# Altium schematic symbol library kmilo17pet-NSC_Switcher.SchLib: 2226 symbols (part 31 of 59)
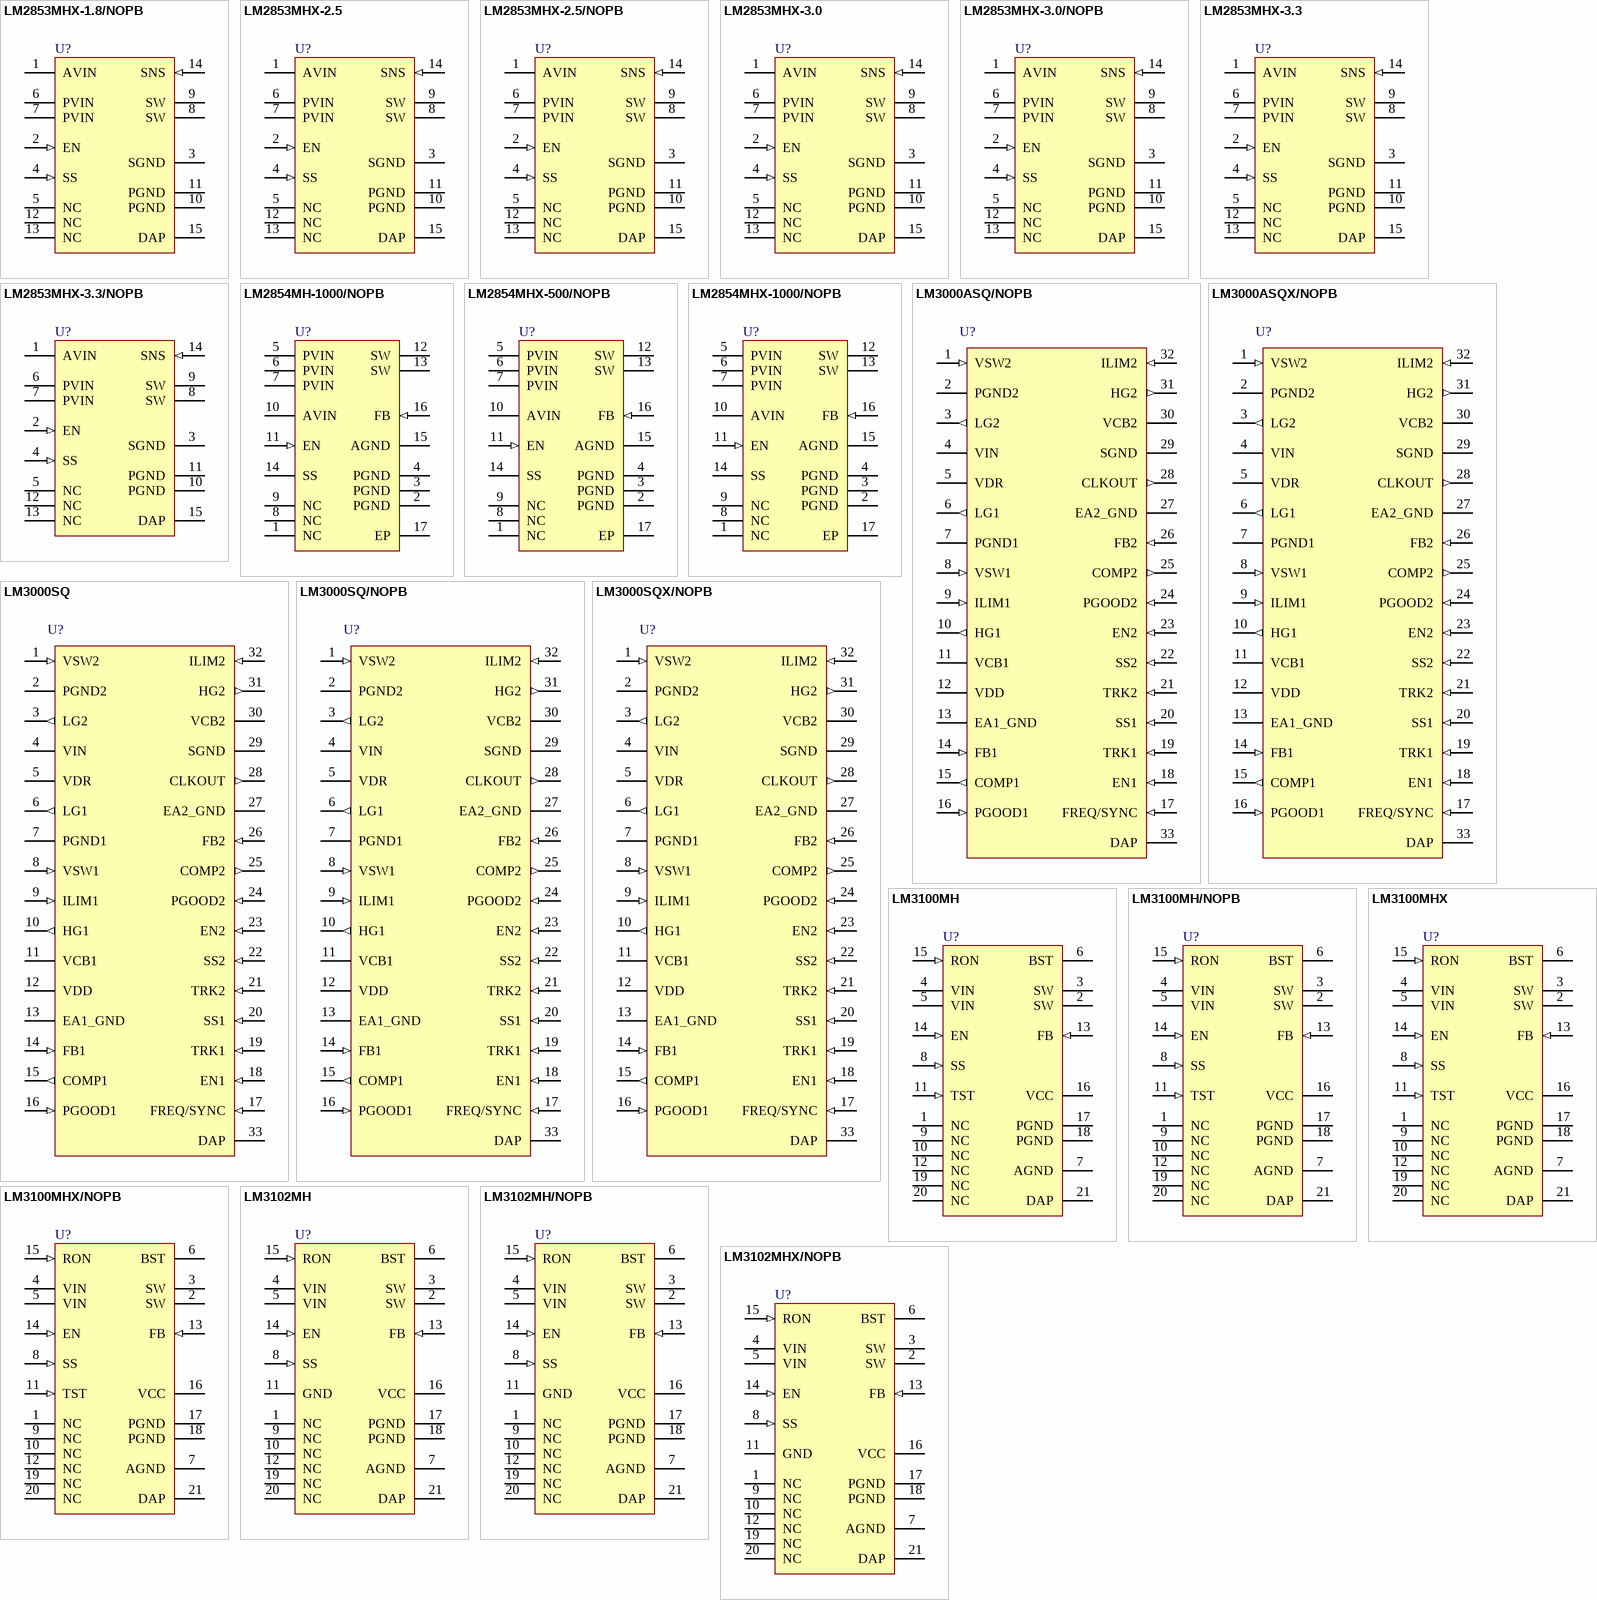
[diagram p99: symbols LM2853MHX-1.8/NOPB to LM3102MHX/NOPB]

## LM3102MHX/NOPB
designator U?
SIMPLE SWITCHER® Synchronous 1MHz 2.5A Step-Down Voltage Regulator, 20-pin TSSOP-EP, Pb-Free, 2500 Reel; PartNumber: LM3102MHX/NOPB; Manufacturer: National Semiconductor; PackageTopMarking: NSUZXYTT*LM3102*MH; PowerWise: Y; DatasheetVersion: May-2011; PackageVersion: revC, Jul-2006; PackageReference: MXA20A; PackageDescription: Molded TSSOP, Jedec, 6.5 x 4.4 x 0.9mm Body, 20 Lead, 0.65mm Pitch, Exposed Pad; RoHS: Y; PinCount: 20; CompType: Switcher; High-Reliability: Y; Code_JEDEC: MO-153-ACT; ComponentLink1Description: Manufacturer URL; ComponentLink1URL: http://www.national.com/; ComponentLink2Description: LM3102 Datasheet; ComponentLink2URL: http://www.national.com/ds/LM/LM3102.pdf; ComponentLink3Description: LM3102 Web Page; ComponentLink3URL: http://www.national.com/pf/LM/LM3102.html; ComponentLink4Description: MXA20A Package Page; ComponentLink4URL: http://www.national.com/packaging/folders/mxa20a.html
footprint MXA20A_N (TSOP, 20-Leads, Body 6.5x4.4mm, Pitch 0.65mm, Thermal Pad, IPC Medium Density)
footprint MXA20A_L (TSOP, 20-Leads, Body 6.5x4.4mm, Pitch 0.65mm, Thermal Pad, IPC High Density)
footprint MXA20A_M (TSOP, 20-Leads, Body 6.5x4.4mm, Pitch 0.65mm, Thermal Pad, IPC Low Density)
pins: 1 NC, 2 SW (power), 3 SW (power), 4 VIN (power), 5 VIN (power), 6 BST, 7 AGND (power), 8 SS (in), 9 NC, 10 NC, 11 GND (power), 12 NC, 13 FB (in), 14 EN (in), 15 RON (in), 16 VCC (power), 17 PGND (power), 18 PGND (power), 19 NC, 20 NC, 21 DAP (power)

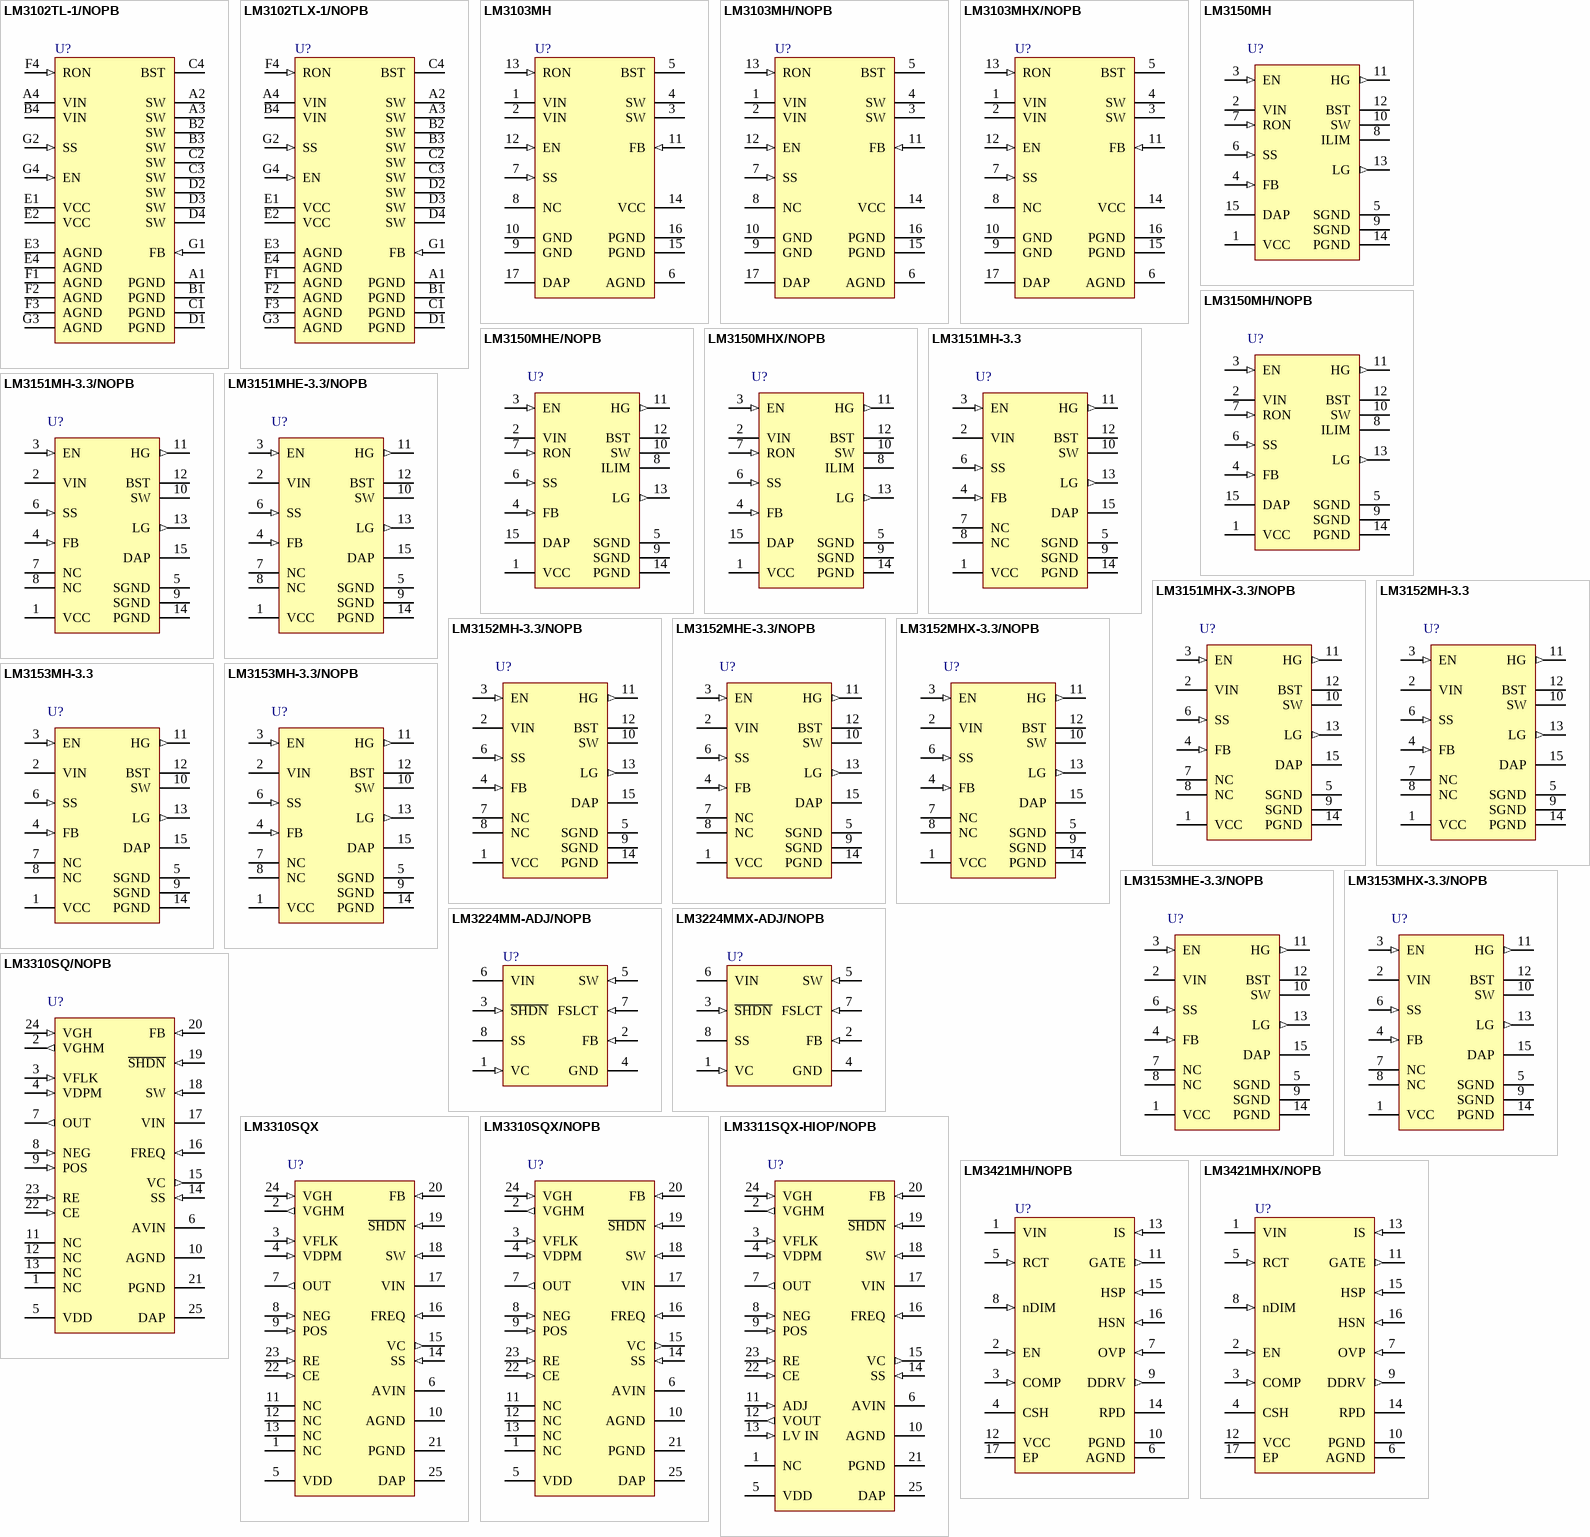
[diagram p33: symbols LM3102TL-1/NOPB to LM3421MHX/NOPB]

## LM3102TL-1/NOPB
designator U?
SIMPLE SWITCHER® Synchronous 1MHz 2.5A Step-Down Voltage  Regulator, 28-pin Micro SMD, 250 Reel; PartNumber: LM3102TL-1/NOPB; Manufacturer: National Semiconductor; PackageTopMarking: XYTT*I 3102; PowerWise: N; High-Reliability: Y; DatasheetVersion: May-2011; PackageVersion: revA, Apr-2010; PackageReference: TLC28VFA; PackageDescription: Thin Micro SMD, Off Centered Array, 28 Bump (Large), 0.5mm Pitch; RoHS: Y; PinCount: 28; CompType: Switcher; ComponentLink1Description: Manufacturer URL; ComponentLink1URL: http://www.national.com/; ComponentLink2Description: LM3102 Datasheet; ComponentLink2URL: http://www.national.com/ds/LM/LM3102.pdf; ComponentLink3Description: LM3102 Web Page; ComponentLink3URL: http://www.national.com/pf/LM/LM3102.html; ComponentLink4Description: TLC28VFA Package Page; ComponentLink4URL: http://www.national.com/packaging/folders/tlc28vfa.html
footprint TLC28VFA (Micro SMD, 28-Leads, Body 3.64x2.45mm, Pitch 0.5mm, NSC Recommended)
pins: A1 PGND (power), A2 SW (power), A3 SW (power), A4 VIN (power), B1 PGND (power), B2 SW (power), B3 SW (power), B4 VIN (power), C1 PGND (power), C2 SW (power), C3 SW (power), C4 BST, D1 PGND (power), D2 SW (power), D3 SW (power), D4 SW (power), E1 VCC (power), E2 VCC (power), E3 AGND (power), E4 AGND (power), F1 AGND (power), F2 AGND (power), F3 AGND (power), F4 RON (in), G1 FB (in), G2 SS (in), G3 AGND (power), G4 EN (in)

## LM3102TLX-1/NOPB
designator U?
SIMPLE SWITCHER® Synchronous 1MHz 2.5A Step-Down Voltage  Regulator, 28-pin Micro SMD, 3000 Reel; PartNumber: LM3102TLX-1/NOPB; Manufacturer: National Semiconductor; PackageTopMarking: XYTT*I 3102; PowerWise: N; High-Reliability: Y; DatasheetVersion: May-2011; PackageVersion: revA, Apr-2010; PackageReference: TLC28VFA; PackageDescription: Thin Micro SMD, Off Centered Array, 28 Bump (Large), 0.5mm Pitch; RoHS: Y; PinCount: 28; CompType: Switcher; ComponentLink1Description: Manufacturer URL; ComponentLink1URL: http://www.national.com/; ComponentLink2Description: LM3102 Datasheet; ComponentLink2URL: http://www.national.com/ds/LM/LM3102.pdf; ComponentLink3Description: LM3102 Web Page; ComponentLink3URL: http://www.national.com/pf/LM/LM3102.html; ComponentLink4Description: TLC28VFA Package Page; ComponentLink4URL: http://www.national.com/packaging/folders/tlc28vfa.html
footprint TLC28VFA (Micro SMD, 28-Leads, Body 3.64x2.45mm, Pitch 0.5mm, NSC Recommended)
pins: A1 PGND (power), A2 SW (power), A3 SW (power), A4 VIN (power), B1 PGND (power), B2 SW (power), B3 SW (power), B4 VIN (power), C1 PGND (power), C2 SW (power), C3 SW (power), C4 BST, D1 PGND (power), D2 SW (power), D3 SW (power), D4 SW (power), E1 VCC (power), E2 VCC (power), E3 AGND (power), E4 AGND (power), F1 AGND (power), F2 AGND (power), F3 AGND (power), F4 RON (in), G1 FB (in), G2 SS (in), G3 AGND (power), G4 EN (in)

## LM3103MH
designator U?
Synchronous 1MHz 0.75A Step-Down Voltage Regulator, 16-pin TSSOP-EP; PartNumber: LM3103MH; Manufacturer: National Semiconductor; PackageTopMarking: NSUZXYTT*LM3103*MH; PowerWise: Y; CompType: Switcher; DatasheetVersion: Nov-2009; PackageVersion: revA, Apr-2003; PackageReference: MXA16A; PackageDescription: Molded TSSOP, Jedec, Exposed Pad, 5.0 x 4.4 x 0.9mm Body,16 Lead, 0.65mm Pitch; RoHS: Y; PinCount: 16; High-Reliability: Y; Code_JEDEC: MO-153-ABT; ComponentLink1Description: Manufacturer URL; ComponentLink1URL: http://www.national.com/; ComponentLink2Description: LM3103 Datasheet; ComponentLink2URL: http://www.national.com/ds/LM/LM3103.pdf; ComponentLink3Description: LM3103 Web Page; ComponentLink3URL: http://www.national.com/pf/LM/LM3103.html; ComponentLink4Description: MXA16A Package Page; ComponentLink4URL: http://www.national.com/packaging/folders/mxa16a.html
footprint MXA16A_N (TSOP, 16-Leads, Body 5x4.4mm, Pitch 0.65mm, Thermal Pad, IPC Medium Density)
footprint MXA16A_L (TSOP, 16-Leads, Body 5x4.4mm, Pitch 0.65mm, Thermal Pad, IPC High Density)
footprint MXA16A_M (TSOP, 16-Leads, Body 5x4.4mm, Pitch 0.65mm, Thermal Pad, IPC Low Density)
pins: 1 VIN (power), 2 VIN (power), 3 SW (power), 4 SW (power), 5 BST, 6 AGND (power), 7 SS (in), 8 NC, 9 GND (power), 10 GND (power), 11 FB (in), 12 EN (in), 13 RON (in), 14 VCC (power), 15 PGND (power), 16 PGND (power), 17 DAP (power)

## LM3103MH/NOPB
designator U?
SIMPLE SWITCHER® Synchronous 1MHz 0.75A Step-Down Voltage Regulator, 16-pin TSSOP-EP, Pb-Free; PartNumber: LM3103MH/NOPB; Manufacturer: National Semiconductor; PackageTopMarking: NSUZXYTT*LM3103*MH; PowerWise: Y; DatasheetVersion: Nov-2009; PackageVersion: revA, Apr-2003; PackageReference: MXA16A; PackageDescription: Molded TSSOP, Jedec, Exposed Pad, 5.0 x 4.4 x 0.9mm Body,16 Lead, 0.65mm Pitch; RoHS: Y; PinCount: 16; CompType: Switcher; High-Reliability: Y; Code_JEDEC: MO-153-ABT; ComponentLink1Description: Manufacturer URL; ComponentLink1URL: http://www.national.com/; ComponentLink2Description: LM3103 Datasheet; ComponentLink2URL: http://www.national.com/ds/LM/LM3103.pdf; ComponentLink3Description: LM3103 Web Page; ComponentLink3URL: http://www.national.com/pf/LM/LM3103.html; ComponentLink4Description: MXA16A Package Page; ComponentLink4URL: http://www.national.com/packaging/folders/mxa16a.html
footprint MXA16A_N (TSOP, 16-Leads, Body 5x4.4mm, Pitch 0.65mm, Thermal Pad, IPC Medium Density)
footprint MXA16A_L (TSOP, 16-Leads, Body 5x4.4mm, Pitch 0.65mm, Thermal Pad, IPC High Density)
footprint MXA16A_M (TSOP, 16-Leads, Body 5x4.4mm, Pitch 0.65mm, Thermal Pad, IPC Low Density)
pins: 1 VIN (power), 2 VIN (power), 3 SW (power), 4 SW (power), 5 BST, 6 AGND (power), 7 SS (in), 8 NC, 9 GND (power), 10 GND (power), 11 FB (in), 12 EN (in), 13 RON (in), 14 VCC (power), 15 PGND (power), 16 PGND (power), 17 DAP (power)

## LM3103MHX/NOPB
designator U?
SIMPLE SWITCHER® Synchronous 1MHz 0.75A Step-Down Voltage Regulator, 16-pin TSSOP-EP, Pb-Free; PartNumber: LM3103MHX/NOPB; Manufacturer: National Semiconductor; PackageTopMarking: NSUZXYTT*LM3103*MH; PowerWise: Y; DatasheetVersion: Nov-2009; PackageVersion: revA, Apr-2003; PackageReference: MXA16A; PackageDescription: Molded TSSOP, Jedec, Exposed Pad, 5.0 x 4.4 x 0.9mm Body,16 Lead, 0.65mm Pitch; RoHS: Y; PinCount: 16; CompType: Switcher; High-Reliability: Y; Code_JEDEC: MO-153-ABT; ComponentLink1Description: Manufacturer URL; ComponentLink1URL: http://www.national.com/; ComponentLink2Description: LM3103 Datasheet; ComponentLink2URL: http://www.national.com/ds/LM/LM3103.pdf; ComponentLink3Description: LM3103 Web Page; ComponentLink3URL: http://www.national.com/pf/LM/LM3103.html; ComponentLink4Description: MXA16A Package Page; ComponentLink4URL: http://www.national.com/packaging/folders/mxa16a.html
footprint MXA16A_N (TSOP, 16-Leads, Body 5x4.4mm, Pitch 0.65mm, Thermal Pad, IPC Medium Density)
footprint MXA16A_L (TSOP, 16-Leads, Body 5x4.4mm, Pitch 0.65mm, Thermal Pad, IPC High Density)
footprint MXA16A_M (TSOP, 16-Leads, Body 5x4.4mm, Pitch 0.65mm, Thermal Pad, IPC Low Density)
pins: 1 VIN (power), 2 VIN (power), 3 SW (power), 4 SW (power), 5 BST, 6 AGND (power), 7 SS (in), 8 NC, 9 GND (power), 10 GND (power), 11 FB (in), 12 EN (in), 13 RON (in), 14 VCC (power), 15 PGND (power), 16 PGND (power), 17 DAP (power)

## LM3150MH
designator U?
SIMPLE SWITCHER® CONTROLLER, 42V Synchronous Step-Down, 14-pin TSSOP-EP; PartNumber: LM3150MH; Manufacturer: National Semiconductor; PackageTopMarking: NSUZXYTT*LM3150*MH; PowerWise: Y; DatasheetVersion: Oct-2008; PackageVersion: revA, Feb-2003; PackageReference: MXA14A; PackageDescription: Molded TSSOP, JEDEC, Exposed Pad, 5.0 x 4.4 x 0.9mm Body, 14 Lead, 0.65mm Pitch; RoHS: Y; PinCount: 14; CompType: Switcher; High-Reliability: Y; Code_JEDEC: MO-153-ABT-1; ComponentLink1Description: Manufacturer URL; ComponentLink1URL: http://www.national.com/; ComponentLink2Description: LM3150 Datasheet; ComponentLink2URL: http://www.national.com/ds/LM/LM3150.pdf; ComponentLink3Description: LM3150 Web Page; ComponentLink3URL: http://www.national.com/pf/LM/LM3150.html; ComponentLink4Description: MXA14A Package Page; ComponentLink4URL: http://www.national.com/packaging/folders/mxa14a.html
footprint MXA14A_N (TSOP, 14-Leads, Body 5x4.4mm, Pitch 0.65mm, Thermal Pad, IPC Medium Density)
footprint MXA14A_L (TSOP, 14-Leads, Body 5x4.4mm, Pitch 0.65mm, Thermal Pad, IPC High Density)
footprint MXA14A_M (TSOP, 14-Leads, Body 5x4.4mm, Pitch 0.65mm, Thermal Pad, IPC Low Density)
pins: 1 VCC (power), 2 VIN (power), 3 EN (in), 4 FB (in), 5 SGND (power), 6 SS (in), 7 RON (in), 8 ILIM, 9 SGND (power), 10 SW (power), 11 HG (out), 12 BST, 13 LG (out), 14 PGND (power), 15 DAP (power)

## LM3150MH/NOPB
designator U?
SIMPLE SWITCHER® CONTROLLER, 42V Synchronous Step-Down, 14-pin TSSOP-EP, Pb-Free; PartNumber: LM3150MH/NOPB; Manufacturer: National Semiconductor; PackageTopMarking: NSUZXYTT*LM3150*MH; PowerWise: Y; DatasheetVersion: Oct-2008; PackageVersion: revA, Feb-2003; PackageReference: MXA14A; PackageDescription: Molded TSSOP, JEDEC, Exposed Pad, 5.0 x 4.4 x 0.9mm Body, 14 Lead, 0.65mm Pitch; RoHS: Y; PinCount: 14; CompType: Switcher; High-Reliability: Y; Code_JEDEC: MO-153-ABT-1; ComponentLink1Description: Manufacturer URL; ComponentLink1URL: http://www.national.com/; ComponentLink2Description: LM3150 Datasheet; ComponentLink2URL: http://www.national.com/ds/LM/LM3150.pdf; ComponentLink3Description: LM3150 Web Page; ComponentLink3URL: http://www.national.com/pf/LM/LM3150.html; ComponentLink4Description: MXA14A Package Page; ComponentLink4URL: http://www.national.com/packaging/folders/mxa14a.html
footprint MXA14A_N (TSOP, 14-Leads, Body 5x4.4mm, Pitch 0.65mm, Thermal Pad, IPC Medium Density)
footprint MXA14A_L (TSOP, 14-Leads, Body 5x4.4mm, Pitch 0.65mm, Thermal Pad, IPC High Density)
footprint MXA14A_M (TSOP, 14-Leads, Body 5x4.4mm, Pitch 0.65mm, Thermal Pad, IPC Low Density)
pins: 1 VCC (power), 2 VIN (power), 3 EN (in), 4 FB (in), 5 SGND (power), 6 SS (in), 7 RON (in), 8 ILIM, 9 SGND (power), 10 SW (power), 11 HG (out), 12 BST, 13 LG (out), 14 PGND (power), 15 DAP (power)

## LM3150MHE/NOPB
designator U?
SIMPLE SWITCHER® CONTROLLER, 42V Synchronous Step-Down, 14-pin TSSOP-EP, Pb-Free; PartNumber: LM3150MHE/NOPB; Manufacturer: National Semiconductor; PackageTopMarking: NSUZXYTT*LM3150*MH; PowerWise: Y; DatasheetVersion: Oct-2008; PackageVersion: revA, Feb-2003; PackageReference: MXA14A; PackageDescription: Molded TSSOP, JEDEC, Exposed Pad, 5.0 x 4.4 x 0.9mm Body, 14 Lead, 0.65mm Pitch; RoHS: Y; PinCount: 14; CompType: Switcher; High-Reliability: Y; Code_JEDEC: MO-153-ABT-1; ComponentLink1Description: Manufacturer URL; ComponentLink1URL: http://www.national.com/; ComponentLink2Description: LM3150 Datasheet; ComponentLink2URL: http://www.national.com/ds/LM/LM3150.pdf; ComponentLink3Description: LM3150 Web Page; ComponentLink3URL: http://www.national.com/pf/LM/LM3150.html; ComponentLink4Description: MXA14A Package Page; ComponentLink4URL: http://www.national.com/packaging/folders/mxa14a.html
footprint MXA14A_N (TSOP, 14-Leads, Body 5x4.4mm, Pitch 0.65mm, Thermal Pad, IPC Medium Density)
footprint MXA14A_L (TSOP, 14-Leads, Body 5x4.4mm, Pitch 0.65mm, Thermal Pad, IPC High Density)
footprint MXA14A_M (TSOP, 14-Leads, Body 5x4.4mm, Pitch 0.65mm, Thermal Pad, IPC Low Density)
pins: 1 VCC (power), 2 VIN (power), 3 EN (in), 4 FB (in), 5 SGND (power), 6 SS (in), 7 RON (in), 8 ILIM, 9 SGND (power), 10 SW (power), 11 HG (out), 12 BST, 13 LG (out), 14 PGND (power), 15 DAP (power)

## LM3150MHX/NOPB
designator U?
SIMPLE SWITCHER® CONTROLLER, 42V Synchronous Step-Down, 14-pin TSSOP-EP, Pb-Free; PartNumber: LM3150MHX/NOPB; Manufacturer: National Semiconductor; PackageTopMarking: NSUZXYTT*LM3150*MH; PowerWise: Y; DatasheetVersion: Oct-2008; PackageVersion: revA, Feb-2003; PackageReference: MXA14A; PackageDescription: Molded TSSOP, JEDEC, Exposed Pad, 5.0 x 4.4 x 0.9mm Body, 14 Lead, 0.65mm Pitch; RoHS: Y; PinCount: 14; CompType: Switcher; High-Reliability: Y; Code_JEDEC: MO-153-ABT-1; ComponentLink1Description: Manufacturer URL; ComponentLink1URL: http://www.national.com/; ComponentLink2Description: LM3150 Datasheet; ComponentLink2URL: http://www.national.com/ds/LM/LM3150.pdf; ComponentLink3Description: LM3150 Web Page; ComponentLink3URL: http://www.national.com/pf/LM/LM3150.html; ComponentLink4Description: MXA14A Package Page; ComponentLink4URL: http://www.national.com/packaging/folders/mxa14a.html
footprint MXA14A_N (TSOP, 14-Leads, Body 5x4.4mm, Pitch 0.65mm, Thermal Pad, IPC Medium Density)
footprint MXA14A_L (TSOP, 14-Leads, Body 5x4.4mm, Pitch 0.65mm, Thermal Pad, IPC High Density)
footprint MXA14A_M (TSOP, 14-Leads, Body 5x4.4mm, Pitch 0.65mm, Thermal Pad, IPC Low Density)
pins: 1 VCC (power), 2 VIN (power), 3 EN (in), 4 FB (in), 5 SGND (power), 6 SS (in), 7 RON (in), 8 ILIM, 9 SGND (power), 10 SW (power), 11 HG (out), 12 BST, 13 LG (out), 14 PGND (power), 15 DAP (power)

## LM3151MH-3.3
designator U?
SIMPLE SWITCHER® CONTROLLER, 42V Synchronous Step-Down, 14-pin TSSOP-EP; PartNumber: LM3151MH-3.3; Manufacturer: National Semiconductor; PackageTopMarking: NSUZXYTT*LM3151*-3.3; PowerWise: Y; DatasheetVersion: Oct-2008; PackageVersion: revA, Feb-2003; PackageReference: MXA14A; PackageDescription: Molded TSSOP, JEDEC, Exposed Pad, 5.0 x 4.4 x 0.9mm Body, 14 Lead, 0.65mm Pitch; RoHS: Y; PinCount: 14; CompType: Switcher; High-Reliability: Y; Code_JEDEC: MO-153-ABT-1; ComponentLink1Description: Manufacturer URL; ComponentLink1URL: http://www.national.com/; ComponentLink2Description: LM3151 Datasheet; ComponentLink2URL: http://www.national.com/ds/LM/LM3151.pdf; ComponentLink3Description: LM3151 Web Page; ComponentLink3URL: http://www.national.com/pf/LM/LM3151.html; ComponentLink4Description: MXA14A Package Page; ComponentLink4URL: http://www.national.com/packaging/folders/mxa14a.html
footprint MXA14A_N (TSOP, 14-Leads, Body 5x4.4mm, Pitch 0.65mm, Thermal Pad, IPC Medium Density)
footprint MXA14A_L (TSOP, 14-Leads, Body 5x4.4mm, Pitch 0.65mm, Thermal Pad, IPC High Density)
footprint MXA14A_M (TSOP, 14-Leads, Body 5x4.4mm, Pitch 0.65mm, Thermal Pad, IPC Low Density)
pins: 1 VCC (power), 2 VIN (power), 3 EN (in), 4 FB (in), 5 SGND (power), 6 SS (in), 7 NC, 8 NC, 9 SGND (power), 10 SW (power), 11 HG (out), 12 BST, 13 LG (out), 14 PGND (power), 15 DAP (power)

## LM3151MH-3.3/NOPB
designator U?
SIMPLE SWITCHER® CONTROLLER, 42V Synchronous Step-Down, 14-pin TSSOP-EP, Pb-Free; PartNumber: LM3151MH-3.3/NOPB; Manufacturer: National Semiconductor; PackageTopMarking: NSUZXYTT*LM3151*-3.3; PowerWise: Y; DatasheetVersion: Oct-2008; PackageVersion: revA, Feb-2003; PackageReference: MXA14A; PackageDescription: Molded TSSOP, JEDEC, Exposed Pad, 5.0 x 4.4 x 0.9mm Body, 14 Lead, 0.65mm Pitch; RoHS: Y; PinCount: 14; CompType: Switcher; High-Reliability: Y; Code_JEDEC: MO-153-ABT-1; ComponentLink1Description: Manufacturer URL; ComponentLink1URL: http://www.national.com/; ComponentLink2Description: LM3151 Datasheet; ComponentLink2URL: http://www.national.com/ds/LM/LM3151.pdf; ComponentLink3Description: LM3151 Web Page; ComponentLink3URL: http://www.national.com/pf/LM/LM3151.html; ComponentLink4Description: MXA14A Package Page; ComponentLink4URL: http://www.national.com/packaging/folders/mxa14a.html
footprint MXA14A_N (TSOP, 14-Leads, Body 5x4.4mm, Pitch 0.65mm, Thermal Pad, IPC Medium Density)
footprint MXA14A_L (TSOP, 14-Leads, Body 5x4.4mm, Pitch 0.65mm, Thermal Pad, IPC High Density)
footprint MXA14A_M (TSOP, 14-Leads, Body 5x4.4mm, Pitch 0.65mm, Thermal Pad, IPC Low Density)
pins: 1 VCC (power), 2 VIN (power), 3 EN (in), 4 FB (in), 5 SGND (power), 6 SS (in), 7 NC, 8 NC, 9 SGND (power), 10 SW (power), 11 HG (out), 12 BST, 13 LG (out), 14 PGND (power), 15 DAP (power)

## LM3151MHE-3.3/NOPB
designator U?
SIMPLE SWITCHER® CONTROLLER, 42V Synchronous Step-Down, 14-pin TSSOP-EP, Pb-Free; PartNumber: LM3151MHE-3.3/NOPB; Manufacturer: National Semiconductor; PackageTopMarking: NSUZXYTT*LM3151*-3.3; PowerWise: Y; DatasheetVersion: Oct-2008; PackageVersion: revA, Feb-2003; PackageReference: MXA14A; PackageDescription: Molded TSSOP, JEDEC, Exposed Pad, 5.0 x 4.4 x 0.9mm Body, 14 Lead, 0.65mm Pitch; RoHS: Y; PinCount: 14; CompType: Switcher; High-Reliability: Y; Code_JEDEC: MO-153-ABT-1; ComponentLink1Description: Manufacturer URL; ComponentLink1URL: http://www.national.com/; ComponentLink2Description: LM3151 Datasheet; ComponentLink2URL: http://www.national.com/ds/LM/LM3151.pdf; ComponentLink3Description: LM3151 Web Page; ComponentLink3URL: http://www.national.com/pf/LM/LM3151.html; ComponentLink4Description: MXA14A Package Page; ComponentLink4URL: http://www.national.com/packaging/folders/mxa14a.html
footprint MXA14A_N (TSOP, 14-Leads, Body 5x4.4mm, Pitch 0.65mm, Thermal Pad, IPC Medium Density)
footprint MXA14A_L (TSOP, 14-Leads, Body 5x4.4mm, Pitch 0.65mm, Thermal Pad, IPC High Density)
footprint MXA14A_M (TSOP, 14-Leads, Body 5x4.4mm, Pitch 0.65mm, Thermal Pad, IPC Low Density)
pins: 1 VCC (power), 2 VIN (power), 3 EN (in), 4 FB (in), 5 SGND (power), 6 SS (in), 7 NC, 8 NC, 9 SGND (power), 10 SW (power), 11 HG (out), 12 BST, 13 LG (out), 14 PGND (power), 15 DAP (power)

## LM3151MHX-3.3/NOPB
designator U?
SIMPLE SWITCHER® CONTROLLER, 42V Synchronous Step-Down, 14-pin TSSOP-EP, Pb-Free; PartNumber: LM3151MHX-3.3/NOPB; Manufacturer: National Semiconductor; PackageTopMarking: NSUZXYTT*LM3151*-3.3; PowerWise: Y; DatasheetVersion: Oct-2008; PackageVersion: revA, Feb-2003; PackageReference: MXA14A; PackageDescription: Molded TSSOP, JEDEC, Exposed Pad, 5.0 x 4.4 x 0.9mm Body, 14 Lead, 0.65mm Pitch; RoHS: Y; PinCount: 14; CompType: Switcher; High-Reliability: Y; Code_JEDEC: MO-153-ABT-1; ComponentLink1Description: Manufacturer URL; ComponentLink1URL: http://www.national.com/; ComponentLink2Description: LM3151 Datasheet; ComponentLink2URL: http://www.national.com/ds/LM/LM3151.pdf; ComponentLink3Description: LM3151 Web Page; ComponentLink3URL: http://www.national.com/pf/LM/LM3151.html; ComponentLink4Description: MXA14A Package Page; ComponentLink4URL: http://www.national.com/packaging/folders/mxa14a.html
footprint MXA14A_N (TSOP, 14-Leads, Body 5x4.4mm, Pitch 0.65mm, Thermal Pad, IPC Medium Density)
footprint MXA14A_L (TSOP, 14-Leads, Body 5x4.4mm, Pitch 0.65mm, Thermal Pad, IPC High Density)
footprint MXA14A_M (TSOP, 14-Leads, Body 5x4.4mm, Pitch 0.65mm, Thermal Pad, IPC Low Density)
pins: 1 VCC (power), 2 VIN (power), 3 EN (in), 4 FB (in), 5 SGND (power), 6 SS (in), 7 NC, 8 NC, 9 SGND (power), 10 SW (power), 11 HG (out), 12 BST, 13 LG (out), 14 PGND (power), 15 DAP (power)

## LM3152MH-3.3
designator U?
SIMPLE SWITCHER® CONTROLLER, 42V Synchronous Step-Down, 14-pin TSSOP-EP; PartNumber: LM3152MH-3.3; Manufacturer: National Semiconductor; PackageTopMarking: NSUZXYTT*LM3152*-3.3; PowerWise: Y; DatasheetVersion: Oct-2008; PackageVersion: revA, Feb-2003; PackageReference: MXA14A; PackageDescription: Molded TSSOP, JEDEC, Exposed Pad, 5.0 x 4.4 x 0.9mm Body, 14 Lead, 0.65mm Pitch; RoHS: Y; PinCount: 14; CompType: Switcher; High-Reliability: Y; Code_JEDEC: MO-153-ABT-1; ComponentLink1Description: Manufacturer URL; ComponentLink1URL: http://www.national.com/; ComponentLink2Description: LM3152 Datasheet; ComponentLink2URL: http://www.national.com/ds/LM/LM3152.pdf; ComponentLink3Description: LM3152 Web Page; ComponentLink3URL: http://www.national.com/pf/LM/LM3152.html; ComponentLink4Description: MXA14A Package Page; ComponentLink4URL: http://www.national.com/packaging/folders/mxa14a.html
footprint MXA14A_N (TSOP, 14-Leads, Body 5x4.4mm, Pitch 0.65mm, Thermal Pad, IPC Medium Density)
footprint MXA14A_L (TSOP, 14-Leads, Body 5x4.4mm, Pitch 0.65mm, Thermal Pad, IPC High Density)
footprint MXA14A_M (TSOP, 14-Leads, Body 5x4.4mm, Pitch 0.65mm, Thermal Pad, IPC Low Density)
pins: 1 VCC (power), 2 VIN (power), 3 EN (in), 4 FB (in), 5 SGND (power), 6 SS (in), 7 NC, 8 NC, 9 SGND (power), 10 SW (power), 11 HG (out), 12 BST, 13 LG (out), 14 PGND (power), 15 DAP (power)

## LM3152MH-3.3/NOPB
designator U?
SIMPLE SWITCHER® CONTROLLER, 42V Synchronous Step-Down, 14-pin TSSOP-EP, Pb-Free; PartNumber: LM3152MH-3.3/NOPB; Manufacturer: National Semiconductor; PackageTopMarking: NSUZXYTT*LM3152*-3.3; PowerWise: Y; DatasheetVersion: Oct-2008; PackageVersion: revA, Feb-2003; PackageReference: MXA14A; PackageDescription: Molded TSSOP, JEDEC, Exposed Pad, 5.0 x 4.4 x 0.9mm Body, 14 Lead, 0.65mm Pitch; RoHS: Y; PinCount: 14; CompType: Switcher; High-Reliability: Y; Code_JEDEC: MO-153-ABT-1; ComponentLink1Description: Manufacturer URL; ComponentLink1URL: http://www.national.com/; ComponentLink2Description: LM3152 Datasheet; ComponentLink2URL: http://www.national.com/ds/LM/LM3152.pdf; ComponentLink3Description: LM3152 Web Page; ComponentLink3URL: http://www.national.com/pf/LM/LM3152.html; ComponentLink4Description: MXA14A Package Page; ComponentLink4URL: http://www.national.com/packaging/folders/mxa14a.html
footprint MXA14A_N (TSOP, 14-Leads, Body 5x4.4mm, Pitch 0.65mm, Thermal Pad, IPC Medium Density)
footprint MXA14A_L (TSOP, 14-Leads, Body 5x4.4mm, Pitch 0.65mm, Thermal Pad, IPC High Density)
footprint MXA14A_M (TSOP, 14-Leads, Body 5x4.4mm, Pitch 0.65mm, Thermal Pad, IPC Low Density)
pins: 1 VCC (power), 2 VIN (power), 3 EN (in), 4 FB (in), 5 SGND (power), 6 SS (in), 7 NC, 8 NC, 9 SGND (power), 10 SW (power), 11 HG (out), 12 BST, 13 LG (out), 14 PGND (power), 15 DAP (power)

## LM3152MHE-3.3/NOPB
designator U?
SIMPLE SWITCHER® CONTROLLER, 42V Synchronous Step-Down, 14-pin TSSOP-EP, Pb-Free; PartNumber: LM3152MHE-3.3/NOPB; Manufacturer: National Semiconductor; PackageTopMarking: NSUZXYTT*LM3152*-3.3; PowerWise: Y; DatasheetVersion: Oct-2008; PackageVersion: revA, Feb-2003; PackageReference: MXA14A; PackageDescription: Molded TSSOP, JEDEC, Exposed Pad, 5.0 x 4.4 x 0.9mm Body, 14 Lead, 0.65mm Pitch; RoHS: Y; PinCount: 14; CompType: Switcher; High-Reliability: Y; Code_JEDEC: MO-153-ABT-1; ComponentLink1Description: Manufacturer URL; ComponentLink1URL: http://www.national.com/; ComponentLink2Description: LM3152 Datasheet; ComponentLink2URL: http://www.national.com/ds/LM/LM3152.pdf; ComponentLink3Description: LM3152 Web Page; ComponentLink3URL: http://www.national.com/pf/LM/LM3152.html; ComponentLink4Description: MXA14A Package Page; ComponentLink4URL: http://www.national.com/packaging/folders/mxa14a.html
footprint MXA14A_N (TSOP, 14-Leads, Body 5x4.4mm, Pitch 0.65mm, Thermal Pad, IPC Medium Density)
footprint MXA14A_L (TSOP, 14-Leads, Body 5x4.4mm, Pitch 0.65mm, Thermal Pad, IPC High Density)
footprint MXA14A_M (TSOP, 14-Leads, Body 5x4.4mm, Pitch 0.65mm, Thermal Pad, IPC Low Density)
pins: 1 VCC (power), 2 VIN (power), 3 EN (in), 4 FB (in), 5 SGND (power), 6 SS (in), 7 NC, 8 NC, 9 SGND (power), 10 SW (power), 11 HG (out), 12 BST, 13 LG (out), 14 PGND (power), 15 DAP (power)

## LM3152MHX-3.3/NOPB
designator U?
SIMPLE SWITCHER® CONTROLLER, 42V Synchronous Step-Down, 14-pin TSSOP-EP, Pb-Free; PartNumber: LM3152MHX-3.3/NOPB; Manufacturer: National Semiconductor; PackageTopMarking: NSUZXYTT*LM3152*-3.3; PowerWise: Y; DatasheetVersion: Oct-2008; PackageVersion: revA, Feb-2003; PackageReference: MXA14A; PackageDescription: Molded TSSOP, JEDEC, Exposed Pad, 5.0 x 4.4 x 0.9mm Body, 14 Lead, 0.65mm Pitch; RoHS: Y; PinCount: 14; CompType: Switcher; High-Reliability: Y; Code_JEDEC: MO-153-ABT-1; ComponentLink1Description: Manufacturer URL; ComponentLink1URL: http://www.national.com/; ComponentLink2Description: LM3152 Datasheet; ComponentLink2URL: http://www.national.com/ds/LM/LM3152.pdf; ComponentLink3Description: LM3152 Web Page; ComponentLink3URL: http://www.national.com/pf/LM/LM3152.html; ComponentLink4Description: MXA14A Package Page; ComponentLink4URL: http://www.national.com/packaging/folders/mxa14a.html
footprint MXA14A_N (TSOP, 14-Leads, Body 5x4.4mm, Pitch 0.65mm, Thermal Pad, IPC Medium Density)
footprint MXA14A_L (TSOP, 14-Leads, Body 5x4.4mm, Pitch 0.65mm, Thermal Pad, IPC High Density)
footprint MXA14A_M (TSOP, 14-Leads, Body 5x4.4mm, Pitch 0.65mm, Thermal Pad, IPC Low Density)
pins: 1 VCC (power), 2 VIN (power), 3 EN (in), 4 FB (in), 5 SGND (power), 6 SS (in), 7 NC, 8 NC, 9 SGND (power), 10 SW (power), 11 HG (out), 12 BST, 13 LG (out), 14 PGND (power), 15 DAP (power)

## LM3153MH-3.3
designator U?
SIMPLE SWITCHER® CONTROLLER, 42V Synchronous Step-Down, 14-pin TSSOP-EP; PartNumber: LM3153MH-3.3; Manufacturer: National Semiconductor; PackageTopMarking: NSUZXYTT*LM3153*-3.3; PowerWise: Y; DatasheetVersion: Oct-2008; PackageVersion: revA, Feb-2003; PackageReference: MXA14A; PackageDescription: Molded TSSOP, JEDEC, Exposed Pad, 5.0 x 4.4 x 0.9mm Body, 14 Lead, 0.65mm Pitch; RoHS: Y; PinCount: 14; CompType: Switcher; High-Reliability: Y; Code_JEDEC: MO-153-ABT-1; ComponentLink1Description: Manufacturer URL; ComponentLink1URL: http://www.national.com/; ComponentLink2Description: LM3153 Datasheet; ComponentLink2URL: http://www.national.com/ds/LM/LM3153.pdf; ComponentLink3Description: LM3153 Web Page; ComponentLink3URL: http://www.national.com/pf/LM/LM3153.html; ComponentLink4Description: MXA14A Package Page; ComponentLink4URL: http://www.national.com/packaging/folders/mxa14a.html
footprint MXA14A_N (TSOP, 14-Leads, Body 5x4.4mm, Pitch 0.65mm, Thermal Pad, IPC Medium Density)
footprint MXA14A_L (TSOP, 14-Leads, Body 5x4.4mm, Pitch 0.65mm, Thermal Pad, IPC High Density)
footprint MXA14A_M (TSOP, 14-Leads, Body 5x4.4mm, Pitch 0.65mm, Thermal Pad, IPC Low Density)
pins: 1 VCC (power), 2 VIN (power), 3 EN (in), 4 FB (in), 5 SGND (power), 6 SS (in), 7 NC, 8 NC, 9 SGND (power), 10 SW (power), 11 HG (out), 12 BST, 13 LG (out), 14 PGND (power), 15 DAP (power)

## LM3153MH-3.3/NOPB
designator U?
SIMPLE SWITCHER® CONTROLLER, 42V Synchronous Step-Down, 14-pin TSSOP-EP, Pb-Free; PartNumber: LM3153MH-3.3/NOPB; Manufacturer: National Semiconductor; PackageTopMarking: NSUZXYTT*LM3153*-3.3; PowerWise: Y; DatasheetVersion: Oct-2008; PackageVersion: revA, Feb-2003; PackageReference: MXA14A; PackageDescription: Molded TSSOP, JEDEC, Exposed Pad, 5.0 x 4.4 x 0.9mm Body, 14 Lead, 0.65mm Pitch; RoHS: Y; PinCount: 14; CompType: Switcher; High-Reliability: Y; Code_JEDEC: MO-153-ABT-1; ComponentLink1Description: Manufacturer URL; ComponentLink1URL: http://www.national.com/; ComponentLink2Description: LM3153 Datasheet; ComponentLink2URL: http://www.national.com/ds/LM/LM3153.pdf; ComponentLink3Description: LM3153 Web Page; ComponentLink3URL: http://www.national.com/pf/LM/LM3153.html; ComponentLink4Description: MXA14A Package Page; ComponentLink4URL: http://www.national.com/packaging/folders/mxa14a.html
footprint MXA14A_N (TSOP, 14-Leads, Body 5x4.4mm, Pitch 0.65mm, Thermal Pad, IPC Medium Density)
footprint MXA14A_L (TSOP, 14-Leads, Body 5x4.4mm, Pitch 0.65mm, Thermal Pad, IPC High Density)
footprint MXA14A_M (TSOP, 14-Leads, Body 5x4.4mm, Pitch 0.65mm, Thermal Pad, IPC Low Density)
pins: 1 VCC (power), 2 VIN (power), 3 EN (in), 4 FB (in), 5 SGND (power), 6 SS (in), 7 NC, 8 NC, 9 SGND (power), 10 SW (power), 11 HG (out), 12 BST, 13 LG (out), 14 PGND (power), 15 DAP (power)

## LM3153MHE-3.3/NOPB
designator U?
SIMPLE SWITCHER® CONTROLLER, 42V Synchronous Step-Down, 14-pin TSSOP-EP, Pb-Free; PartNumber: LM3153MHE-3.3/NOPB; Manufacturer: National Semiconductor; PackageTopMarking: NSUZXYTT*LM3153*-3.3; PowerWise: Y; DatasheetVersion: Oct-2008; PackageVersion: revA, Feb-2003; PackageReference: MXA14A; PackageDescription: Molded TSSOP, JEDEC, Exposed Pad, 5.0 x 4.4 x 0.9mm Body, 14 Lead, 0.65mm Pitch; RoHS: Y; PinCount: 14; CompType: Switcher; High-Reliability: Y; Code_JEDEC: MO-153-ABT-1; ComponentLink1Description: Manufacturer URL; ComponentLink1URL: http://www.national.com/; ComponentLink2Description: LM3153 Datasheet; ComponentLink2URL: http://www.national.com/ds/LM/LM3153.pdf; ComponentLink3Description: LM3153 Web Page; ComponentLink3URL: http://www.national.com/pf/LM/LM3153.html; ComponentLink4Description: MXA14A Package Page; ComponentLink4URL: http://www.national.com/packaging/folders/mxa14a.html
footprint MXA14A_N (TSOP, 14-Leads, Body 5x4.4mm, Pitch 0.65mm, Thermal Pad, IPC Medium Density)
footprint MXA14A_L (TSOP, 14-Leads, Body 5x4.4mm, Pitch 0.65mm, Thermal Pad, IPC High Density)
footprint MXA14A_M (TSOP, 14-Leads, Body 5x4.4mm, Pitch 0.65mm, Thermal Pad, IPC Low Density)
pins: 1 VCC (power), 2 VIN (power), 3 EN (in), 4 FB (in), 5 SGND (power), 6 SS (in), 7 NC, 8 NC, 9 SGND (power), 10 SW (power), 11 HG (out), 12 BST, 13 LG (out), 14 PGND (power), 15 DAP (power)

## LM3153MHX-3.3/NOPB
designator U?
SIMPLE SWITCHER® CONTROLLER, 42V Synchronous Step-Down, 14-pin TSSOP-EP, Pb-Free; PartNumber: LM3153MHX-3.3/NOPB; Manufacturer: National Semiconductor; PackageTopMarking: NSUZXYTT*LM3153*-3.3; PowerWise: Y; DatasheetVersion: Oct-2008; PackageVersion: revA, Feb-2003; PackageReference: MXA14A; PackageDescription: Molded TSSOP, JEDEC, Exposed Pad, 5.0 x 4.4 x 0.9mm Body, 14 Lead, 0.65mm Pitch; RoHS: Y; PinCount: 14; CompType: Switcher; High-Reliability: Y; Code_JEDEC: MO-153-ABT-1; ComponentLink1Description: Manufacturer URL; ComponentLink1URL: http://www.national.com/; ComponentLink2Description: LM3153 Datasheet; ComponentLink2URL: http://www.national.com/ds/LM/LM3153.pdf; ComponentLink3Description: LM3153 Web Page; ComponentLink3URL: http://www.national.com/pf/LM/LM3153.html; ComponentLink4Description: MXA14A Package Page; ComponentLink4URL: http://www.national.com/packaging/folders/mxa14a.html
footprint MXA14A_N (TSOP, 14-Leads, Body 5x4.4mm, Pitch 0.65mm, Thermal Pad, IPC Medium Density)
footprint MXA14A_L (TSOP, 14-Leads, Body 5x4.4mm, Pitch 0.65mm, Thermal Pad, IPC High Density)
footprint MXA14A_M (TSOP, 14-Leads, Body 5x4.4mm, Pitch 0.65mm, Thermal Pad, IPC Low Density)
pins: 1 VCC (power), 2 VIN (power), 3 EN (in), 4 FB (in), 5 SGND (power), 6 SS (in), 7 NC, 8 NC, 9 SGND (power), 10 SW (power), 11 HG (out), 12 BST, 13 LG (out), 14 PGND (power), 15 DAP (power)

## LM3224MM-ADJ/NOPB
designator U?
615kHz/1.25MHz Step-up PWM DC/DC Converter, 8-pin MSOP, Pb-Free; PartNumber: LM3224MM-ADJ/NOPB; Manufacturer: National Semiconductor; PackageTopMarking: ZXTT*SEKB; PowerWise: N; CompType: Switcher; High-Reliability: Y; DatasheetVersion: Sep-2005; PackageVersion: revF, Apr-2008; PackageReference: MUA08A; PackageDescription: MINI SOIC, .118 x .118 x .034in, 8 Lead, .0256in Pitch; RoHS: Y; PinCount: 8; Code_JEDEC: MO-187-AA; ComponentLink1Description: Manufacturer URL; ComponentLink1URL: http://www.national.com/; ComponentLink2Description: LM3224 Datasheet; ComponentLink2URL: http://www.national.com/ds/LM/LM3224.pdf; ComponentLink3Description: LM3224 Web Page; ComponentLink3URL: http://www.national.com/pf/LM/LM3224.html; ComponentLink4Description: MUA08A Package Page; ComponentLink4URL: http://www.national.com/packaging/folders/mua08a.html
footprint MUA08A_N (TSOP, 8-Leads, Body 3x3mm, Pitch 0.65mm, IPC Medium Density)
footprint MUA08A_L (TSOP, 8-Leads, Body 3x3mm, Pitch 0.65mm, IPC High Density)
footprint MUA08A_M (TSOP, 8-Leads, Body 3x3mm, Pitch 0.65mm, IPC Low Density)
pins: 1 VC (in), 2 FB (in), 3 ~{SHDN} (in), 4 GND (power), 5 SW (in), 6 VIN (power), 7 FSLCT (in), 8 SS

## LM3224MMX-ADJ/NOPB
designator U?
615kHz/1.25MHz Step-up PWM DC/DC Converter, 8-pin MSOP, Pb-Free; PartNumber: LM3224MMX-ADJ/NOPB; Manufacturer: National Semiconductor; PackageTopMarking: ZXTT*SEKB; PowerWise: N; CompType: Switcher; High-Reliability: Y; DatasheetVersion: Sep-2005; PackageVersion: revF, Apr-2008; PackageReference: MUA08A; PackageDescription: MINI SOIC, .118 x .118 x .034in, 8 Lead, .0256in Pitch; RoHS: Y; PinCount: 8; Code_JEDEC: MO-187-AA; ComponentLink1Description: Manufacturer URL; ComponentLink1URL: http://www.national.com/; ComponentLink2Description: LM3224 Datasheet; ComponentLink2URL: http://www.national.com/ds/LM/LM3224.pdf; ComponentLink3Description: LM3224 Web Page; ComponentLink3URL: http://www.national.com/pf/LM/LM3224.html; ComponentLink4Description: MUA08A Package Page; ComponentLink4URL: http://www.national.com/packaging/folders/mua08a.html
footprint MUA08A_N (TSOP, 8-Leads, Body 3x3mm, Pitch 0.65mm, IPC Medium Density)
footprint MUA08A_L (TSOP, 8-Leads, Body 3x3mm, Pitch 0.65mm, IPC High Density)
footprint MUA08A_M (TSOP, 8-Leads, Body 3x3mm, Pitch 0.65mm, IPC Low Density)
pins: 1 VC (in), 2 FB (in), 3 ~{SHDN} (in), 4 GND (power), 5 SW (in), 6 VIN (power), 7 FSLCT (in), 8 SS

## LM3310SQ/NOPB
designator U?
Step-Up PWM DC/DC Converter with Integrated Op-Amp and Gate Pulse Modulation Switch, 24-pin LLP, Pb-Free; PartNumber: LM3310SQ/NOPB; Manufacturer: National Semiconductor; PackageTopMarking: NS*UZXYTT*L3310SQ; PowerWise: N; CompType: Switcher; High-Reliability: Y; DatasheetVersion: Nov-2007; PackageVersion: revB, Aug-2003; PackageReference: SQA24A; PackageDescription: LLP, Plastic, Quad, 4 x 4 x 0.8mm Body, 24 Lead, 0.5mm Pitch, No Pullback; RoHS: Y; PinCount: 24; Code_JEDEC: MO-220-WGGD-6; ComponentLink1Description: Manufacturer URL; ComponentLink1URL: http://www.national.com/; ComponentLink2Description: LM3310 Datasheet; ComponentLink2URL: http://www.national.com/ds/LM/LM3310.pdf; ComponentLink3Description: LM3310 Web Page; ComponentLink3URL: http://www.national.com/pf/LM/LM3310.html; ComponentLink4Description: SQA24A Package Page; ComponentLink4URL: http://www.national.com/packaging/folders/sqa24a.html
footprint SQA24A (QFN, 24-Leads, Body 4x4mm, Pitch 0.5mm, Thermal Pad 2.7x2.7mm, NSC Recommended)
pins: 1 NC, 2 VGHM (out), 3 VFLK (in), 4 VDPM (in), 5 VDD (power), 6 AVIN (power), 7 OUT (out), 8 NEG (in), 9 POS (in), 10 AGND (power), 11 NC, 12 NC, 13 NC, 14 SS (in), 15 VC (out), 16 FREQ (in), 17 VIN (power), 18 SW (in), 19 ~{SHDN} (in), 20 FB (in), 21 PGND (power), 22 CE (in), 23 RE (in), 24 VGH (in), 25 DAP (power)

## LM3310SQX
designator U?
Step-Up PWM DC/DC Converter with Integrated Op-Amp and Gate Pulse Modulation Switch, 24-pin LLP; PartNumber: LM3310SQX; Manufacturer: National Semiconductor; PackageTopMarking: NS*UZXYTT*L3310SQ; PowerWise: N; CompType: Switcher; High-Reliability: Y; DatasheetVersion: Nov-2007; PackageVersion: revB, Aug-2003; PackageReference: SQA24A; PackageDescription: LLP, Plastic, Quad, 4 x 4 x 0.8mm Body, 24 Lead, 0.5mm Pitch, No Pullback; RoHS: N; PinCount: 24; Code_JEDEC: MO-220-WGGD-6; ComponentLink1Description: Manufacturer URL; ComponentLink1URL: http://www.national.com/; ComponentLink2Description: LM3310 Datasheet; ComponentLink2URL: http://www.national.com/ds/LM/LM3310.pdf; ComponentLink3Description: LM3310 Web Page; ComponentLink3URL: http://www.national.com/pf/LM/LM3310.html; ComponentLink4Description: SQA24A Package Page; ComponentLink4URL: http://www.national.com/packaging/folders/sqa24a.html
footprint SQA24A (QFN, 24-Leads, Body 4x4mm, Pitch 0.5mm, Thermal Pad 2.7x2.7mm, NSC Recommended)
pins: 1 NC, 2 VGHM (out), 3 VFLK (in), 4 VDPM (in), 5 VDD (power), 6 AVIN (power), 7 OUT (out), 8 NEG (in), 9 POS (in), 10 AGND (power), 11 NC, 12 NC, 13 NC, 14 SS (in), 15 VC (out), 16 FREQ (in), 17 VIN (power), 18 SW (in), 19 ~{SHDN} (in), 20 FB (in), 21 PGND (power), 22 CE (in), 23 RE (in), 24 VGH (in), 25 DAP (power)

## LM3310SQX/NOPB
designator U?
Step-Up PWM DC/DC Converter with Integrated Op-Amp and Gate Pulse Modulation Switch, 24-pin LLP, Pb-Free; PartNumber: LM3310SQX/NOPB; Manufacturer: National Semiconductor; PackageTopMarking: NS*UZXYTT*L3310SQ; PowerWise: N; CompType: Switcher; High-Reliability: Y; DatasheetVersion: Nov-2007; PackageVersion: revB, Aug-2003; PackageReference: SQA24A; PackageDescription: LLP, Plastic, Quad, 4 x 4 x 0.8mm Body, 24 Lead, 0.5mm Pitch, No Pullback; RoHS: Y; PinCount: 24; Code_JEDEC: MO-220-WGGD-6; ComponentLink1Description: Manufacturer URL; ComponentLink1URL: http://www.national.com/; ComponentLink2Description: LM3310 Datasheet; ComponentLink2URL: http://www.national.com/ds/LM/LM3310.pdf; ComponentLink3Description: LM3310 Web Page; ComponentLink3URL: http://www.national.com/pf/LM/LM3310.html; ComponentLink4Description: SQA24A Package Page; ComponentLink4URL: http://www.national.com/packaging/folders/sqa24a.html
footprint SQA24A (QFN, 24-Leads, Body 4x4mm, Pitch 0.5mm, Thermal Pad 2.7x2.7mm, NSC Recommended)
pins: 1 NC, 2 VGHM (out), 3 VFLK (in), 4 VDPM (in), 5 VDD (power), 6 AVIN (power), 7 OUT (out), 8 NEG (in), 9 POS (in), 10 AGND (power), 11 NC, 12 NC, 13 NC, 14 SS (in), 15 VC (out), 16 FREQ (in), 17 VIN (power), 18 SW (in), 19 ~{SHDN} (in), 20 FB (in), 21 PGND (power), 22 CE (in), 23 RE (in), 24 VGH (in), 25 DAP (power)

## LM3311SQX-HIOP/NOPB
designator U?
Step-Up PWM DC/DC Converter with Integrated LDO, Op-Amp, and Gate Pulse Modulation Switch, 24-pin LLP, Pb-Free; PartNumber: LM3311SQX-HIOP/NOPB; Manufacturer: National Semiconductor; PackageTopMarking: NS*UZXYTT*L3311HP; PowerWise: N; CompType: Switcher; High-Reliability: Y; DatasheetVersion: Nov-2007; PackageVersion: revB, Aug-2003; PackageReference: SQA24A; PackageDescription: LLP, Plastic, Quad, 4 x 4 x 0.8mm Body, 24 Lead, 0.5mm Pitch, No Pullback; RoHS: Y; PinCount: 24; Code_JEDEC: MO-220-WGGD-6; ComponentLink1Description: Manufacturer URL; ComponentLink1URL: http://www.national.com/; ComponentLink2Description: LM3311 Datasheet; ComponentLink2URL: http://www.national.com/ds/LM/LM3311.pdf; ComponentLink3Description: LM3311 Web Page; ComponentLink3URL: http://www.national.com/pf/LM/LM3311.html; ComponentLink4Description: SQA24A Package Page; ComponentLink4URL: http://www.national.com/packaging/folders/sqa24a.html
footprint SQA24A (QFN, 24-Leads, Body 4x4mm, Pitch 0.5mm, Thermal Pad 2.7x2.7mm, NSC Recommended)
pins: 1 NC, 2 VGHM (out), 3 VFLK (in), 4 VDPM (in), 5 VDD (power), 6 AVIN (power), 7 OUT (out), 8 NEG (in), 9 POS (in), 10 AGND (power), 11 ADJ (in), 12 VOUT (out), 13 LV IN (in), 14 SS (in), 15 VC (out), 16 FREQ (in), 17 VIN (power), 18 SW (in), 19 ~{SHDN} (in), 20 FB (in), 21 PGND (power), 22 CE (in), 23 RE (in), 24 VGH (in), 25 DAP (power)

## LM3421MH/NOPB
designator U?
N-Channel Controllers for Constant Current LED Drivers, 16-pin TSSOP-EP, Pb-Free; PartNumber: LM3421MH/NOPB; Manufacturer: National Semiconductor; PackageTopMarking: NSUZXYTT*LM3421*MH; PowerWise: Y; CompType: Switcher; DatasheetVersion: Jan-2010; PackageVersion: revA, Apr-2003; PackageReference: MXA16A; PackageDescription: Molded TSSOP, Jedec, Exposed Pad, 5.0 x 4.4 x 0.9mm Body,16 Lead, 0.65mm Pitch; RoHS: Y; PinCount: 16; High-Reliability: Y; Code_JEDEC: MO-153-ABT; ComponentLink1Description: Manufacturer URL; ComponentLink1URL: http://www.national.com/; ComponentLink2Description: LM3421 Datasheet; ComponentLink2URL: http://www.national.com/ds/LM/LM3421.pdf; ComponentLink3Description: LM3421 Web Page; ComponentLink3URL: http://www.national.com/pf/LM/LM3421.html; ComponentLink4Description: MXA16A Package Page; ComponentLink4URL: http://www.national.com/packaging/folders/mxa16a.html
footprint MXA16A_N (TSOP, 16-Leads, Body 5x4.4mm, Pitch 0.65mm, Thermal Pad, IPC Medium Density)
footprint MXA16A_L (TSOP, 16-Leads, Body 5x4.4mm, Pitch 0.65mm, Thermal Pad, IPC High Density)
footprint MXA16A_M (TSOP, 16-Leads, Body 5x4.4mm, Pitch 0.65mm, Thermal Pad, IPC Low Density)
pins: 1 VIN (power), 2 EN (in), 3 COMP (in), 4 CSH, 5 RCT (in), 6 AGND (power), 7 OVP (in), 8 nDIM (in), 9 DDRV (out), 10 PGND (power), 11 GATE (out), 12 VCC (power), 13 IS (in), 14 RPD (oc), 15 HSP (in), 16 HSN (in), 17 EP (power)

## LM3421MHX/NOPB
designator U?
N-Channel Controllers for Constant Current LED Drivers, 16-pin TSSOP-EP, Pb-Free; PartNumber: LM3421MHX/NOPB; Manufacturer: National Semiconductor; PackageTopMarking: NSUZXYTT*LM3421*MH; PowerWise: Y; CompType: Switcher; DatasheetVersion: Jan-2010; PackageVersion: revA, Apr-2003; PackageReference: MXA16A; PackageDescription: Molded TSSOP, Jedec, Exposed Pad, 5.0 x 4.4 x 0.9mm Body,16 Lead, 0.65mm Pitch; RoHS: Y; PinCount: 16; High-Reliability: Y; Code_JEDEC: MO-153-ABT; ComponentLink1Description: Manufacturer URL; ComponentLink1URL: http://www.national.com/; ComponentLink2Description: LM3421 Datasheet; ComponentLink2URL: http://www.national.com/ds/LM/LM3421.pdf; ComponentLink3Description: LM3421 Web Page; ComponentLink3URL: http://www.national.com/pf/LM/LM3421.html; ComponentLink4Description: MXA16A Package Page; ComponentLink4URL: http://www.national.com/packaging/folders/mxa16a.html
footprint MXA16A_N (TSOP, 16-Leads, Body 5x4.4mm, Pitch 0.65mm, Thermal Pad, IPC Medium Density)
footprint MXA16A_L (TSOP, 16-Leads, Body 5x4.4mm, Pitch 0.65mm, Thermal Pad, IPC High Density)
footprint MXA16A_M (TSOP, 16-Leads, Body 5x4.4mm, Pitch 0.65mm, Thermal Pad, IPC Low Density)
pins: 1 VIN (power), 2 EN (in), 3 COMP (in), 4 CSH, 5 RCT (in), 6 AGND (power), 7 OVP (in), 8 nDIM (in), 9 DDRV (out), 10 PGND (power), 11 GATE (out), 12 VCC (power), 13 IS (in), 14 RPD (oc), 15 HSP (in), 16 HSN (in), 17 EP (power)

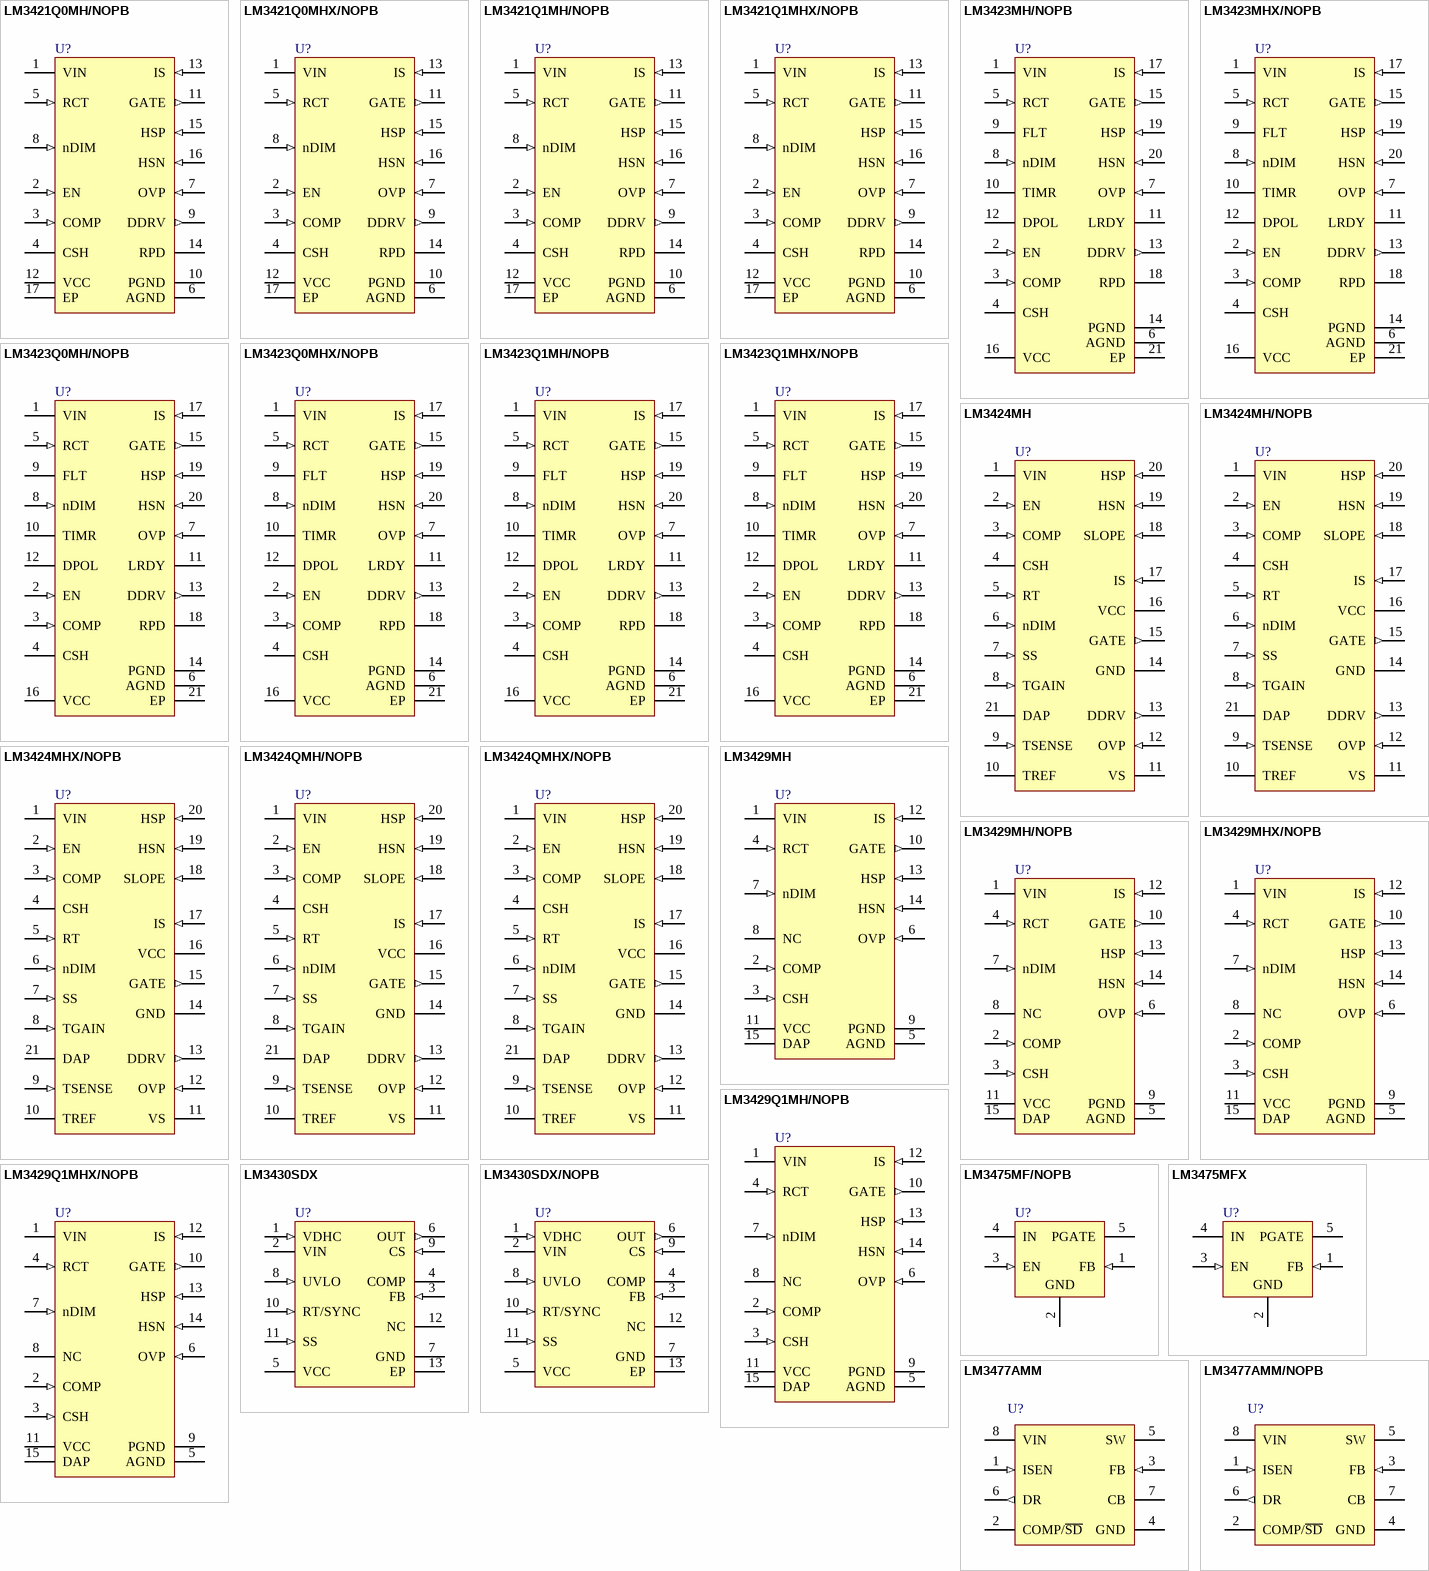
[diagram p34: symbols LM3421Q0MH/NOPB to LM3477AMM/NOPB]

## LM3421Q0MH/NOPB
designator U?
N-Channel Controllers for Constant Current LED Drivers, 16-pin TSSOP-EP, Pb-Free; PartNumber: LM3421Q0MH/NOPB; Manufacturer: National Semiconductor; PackageTopMarking: NSUZXYTT*LM3421*Q0MH; PowerWise: Y; CompType: Switcher; DatasheetVersion: Jan-2010; PackageVersion: revA, Apr-2003; PackageReference: MXA16A; PackageDescription: Molded TSSOP, Jedec, Exposed Pad, 5.0 x 4.4 x 0.9mm Body,16 Lead, 0.65mm Pitch; RoHS: Y; PinCount: 16; High-Reliability: Y; Code_JEDEC: MO-153-ABT; ComponentLink1Description: Manufacturer URL; ComponentLink1URL: http://www.national.com/; ComponentLink2Description: LM3421 Datasheet; ComponentLink2URL: http://www.national.com/ds/LM/LM3421.pdf; ComponentLink3Description: LM3421 Web Page; ComponentLink3URL: http://www.national.com/pf/LM/LM3421.html; ComponentLink4Description: MXA16A Package Page; ComponentLink4URL: http://www.national.com/packaging/folders/mxa16a.html
footprint MXA16A_N (TSOP, 16-Leads, Body 5x4.4mm, Pitch 0.65mm, Thermal Pad, IPC Medium Density)
footprint MXA16A_L (TSOP, 16-Leads, Body 5x4.4mm, Pitch 0.65mm, Thermal Pad, IPC High Density)
footprint MXA16A_M (TSOP, 16-Leads, Body 5x4.4mm, Pitch 0.65mm, Thermal Pad, IPC Low Density)
pins: 1 VIN (power), 2 EN (in), 3 COMP (in), 4 CSH, 5 RCT (in), 6 AGND (power), 7 OVP (in), 8 nDIM (in), 9 DDRV (out), 10 PGND (power), 11 GATE (out), 12 VCC (power), 13 IS (in), 14 RPD (oc), 15 HSP (in), 16 HSN (in), 17 EP (power)

## LM3421Q0MHX/NOPB
designator U?
N-Channel Controllers for Constant Current LED Drivers, 16-pin TSSOP-EP, Pb-Free; PartNumber: LM3421Q0MHX/NOPB; Manufacturer: National Semiconductor; PackageTopMarking: NSUZXYTT*LM3421*Q0MH; PowerWise: Y; CompType: Switcher; DatasheetVersion: Jan-2010; PackageVersion: revA, Apr-2003; PackageReference: MXA16A; PackageDescription: Molded TSSOP, Jedec, Exposed Pad, 5.0 x 4.4 x 0.9mm Body,16 Lead, 0.65mm Pitch; RoHS: Y; PinCount: 16; High-Reliability: Y; Code_JEDEC: MO-153-ABT; ComponentLink1Description: Manufacturer URL; ComponentLink1URL: http://www.national.com/; ComponentLink2Description: LM3421 Datasheet; ComponentLink2URL: http://www.national.com/ds/LM/LM3421.pdf; ComponentLink3Description: LM3421 Web Page; ComponentLink3URL: http://www.national.com/pf/LM/LM3421.html; ComponentLink4Description: MXA16A Package Page; ComponentLink4URL: http://www.national.com/packaging/folders/mxa16a.html
footprint MXA16A_N (TSOP, 16-Leads, Body 5x4.4mm, Pitch 0.65mm, Thermal Pad, IPC Medium Density)
footprint MXA16A_L (TSOP, 16-Leads, Body 5x4.4mm, Pitch 0.65mm, Thermal Pad, IPC High Density)
footprint MXA16A_M (TSOP, 16-Leads, Body 5x4.4mm, Pitch 0.65mm, Thermal Pad, IPC Low Density)
pins: 1 VIN (power), 2 EN (in), 3 COMP (in), 4 CSH, 5 RCT (in), 6 AGND (power), 7 OVP (in), 8 nDIM (in), 9 DDRV (out), 10 PGND (power), 11 GATE (out), 12 VCC (power), 13 IS (in), 14 RPD (oc), 15 HSP (in), 16 HSN (in), 17 EP (power)

## LM3421Q1MH/NOPB
designator U?
N-Channel Controllers for Constant Current LED Drivers, 16-pin TSSOP-EP, Pb-Free; PartNumber: LM3421Q1MH/NOPB; Manufacturer: National Semiconductor; PackageTopMarking: NSUZXYTT*LM3421*Q1MH; PowerWise: N; CompType: Switcher; High-Reliability: Y; DatasheetVersion: Jan-2010; PackageVersion: revA, Apr-2003; PackageReference: MXA16A; PackageDescription: Molded TSSOP, Jedec, Exposed Pad, 5.0 x 4.4 x 0.9mm Body,16 Lead, 0.65mm Pitch; RoHS: Y; PinCount: 16; Code_JEDEC: MO-153-ABT; ComponentLink1Description: Manufacturer URL; ComponentLink1URL: http://www.national.com/; ComponentLink2Description: LM3421 Datasheet; ComponentLink2URL: http://www.national.com/ds/LM/LM3421.pdf; ComponentLink3Description: LM3421 Web Page; ComponentLink3URL: http://www.national.com/pf/LM/LM3421.html; ComponentLink4Description: MXA16A Package Page; ComponentLink4URL: http://www.national.com/packaging/folders/mxa16a.html
footprint MXA16A_N (TSOP, 16-Leads, Body 5x4.4mm, Pitch 0.65mm, Thermal Pad, IPC Medium Density)
footprint MXA16A_L (TSOP, 16-Leads, Body 5x4.4mm, Pitch 0.65mm, Thermal Pad, IPC High Density)
footprint MXA16A_M (TSOP, 16-Leads, Body 5x4.4mm, Pitch 0.65mm, Thermal Pad, IPC Low Density)
pins: 1 VIN (power), 2 EN (in), 3 COMP (in), 4 CSH, 5 RCT (in), 6 AGND (power), 7 OVP (in), 8 nDIM (in), 9 DDRV (out), 10 PGND (power), 11 GATE (out), 12 VCC (power), 13 IS (in), 14 RPD (oc), 15 HSP (in), 16 HSN (in), 17 EP (power)

## LM3421Q1MHX/NOPB
designator U?
N-Channel Controllers for Constant Current LED Drivers, 16-pin TSSOP-EP, Pb-Free; PartNumber: LM3421Q1MHX/NOPB; Manufacturer: National Semiconductor; PackageTopMarking: NSUZXYTT*LM3421*Q1MH; PowerWise: N; CompType: Switcher; High-Reliability: Y; DatasheetVersion: Jan-2010; PackageVersion: revA, Apr-2003; PackageReference: MXA16A; PackageDescription: Molded TSSOP, Jedec, Exposed Pad, 5.0 x 4.4 x 0.9mm Body,16 Lead, 0.65mm Pitch; RoHS: Y; PinCount: 16; Code_JEDEC: MO-153-ABT; ComponentLink1Description: Manufacturer URL; ComponentLink1URL: http://www.national.com/; ComponentLink2Description: LM3421 Datasheet; ComponentLink2URL: http://www.national.com/ds/LM/LM3421.pdf; ComponentLink3Description: LM3421 Web Page; ComponentLink3URL: http://www.national.com/pf/LM/LM3421.html; ComponentLink4Description: MXA16A Package Page; ComponentLink4URL: http://www.national.com/packaging/folders/mxa16a.html
footprint MXA16A_N (TSOP, 16-Leads, Body 5x4.4mm, Pitch 0.65mm, Thermal Pad, IPC Medium Density)
footprint MXA16A_L (TSOP, 16-Leads, Body 5x4.4mm, Pitch 0.65mm, Thermal Pad, IPC High Density)
footprint MXA16A_M (TSOP, 16-Leads, Body 5x4.4mm, Pitch 0.65mm, Thermal Pad, IPC Low Density)
pins: 1 VIN (power), 2 EN (in), 3 COMP (in), 4 CSH, 5 RCT (in), 6 AGND (power), 7 OVP (in), 8 nDIM (in), 9 DDRV (out), 10 PGND (power), 11 GATE (out), 12 VCC (power), 13 IS (in), 14 RPD (oc), 15 HSP (in), 16 HSN (in), 17 EP (power)

## LM3423MH/NOPB
designator U?
N-Channel Controllers for Constant Current LED Drivers, 20-pin TSSOP-EP, Pb-Free; PartNumber: LM3423MH/NOPB; Manufacturer: National Semiconductor; PackageTopMarking: NSUZXYTT*LM3423*MH; PowerWise: Y; CompType: Switcher; DatasheetVersion: Jan-2010; PackageVersion: revC, Jul-2006; PackageReference: MXA20A; PackageDescription: Molded TSSOP, Jedec, 6.5 x 4.4 x 0.9mm Body, 20 Lead, 0.65mm Pitch, Exposed Pad; RoHS: Y; PinCount: 20; High-Reliability: Y; Code_JEDEC: MO-153-ACT; ComponentLink1Description: Manufacturer URL; ComponentLink1URL: http://www.national.com/; ComponentLink2Description: LM3423 Datasheet; ComponentLink2URL: http://www.national.com/ds/LM/LM3423.pdf; ComponentLink3Description: LM3423 Web Page; ComponentLink3URL: http://www.national.com/pf/LM/LM3423.html; ComponentLink4Description: MXA20A Package Page; ComponentLink4URL: http://www.national.com/packaging/folders/mxa20a.html
footprint MXA20A_N (TSOP, 20-Leads, Body 6.5x4.4mm, Pitch 0.65mm, Thermal Pad, IPC Medium Density)
footprint MXA20A_L (TSOP, 20-Leads, Body 6.5x4.4mm, Pitch 0.65mm, Thermal Pad, IPC High Density)
footprint MXA20A_M (TSOP, 20-Leads, Body 6.5x4.4mm, Pitch 0.65mm, Thermal Pad, IPC Low Density)
pins: 1 VIN (power), 2 EN (in), 3 COMP (in), 4 CSH, 5 RCT (in), 6 AGND (power), 7 OVP (in), 8 nDIM (in), 9 FLT (oc), 10 TIMR, 11 LRDY (oc), 12 DPOL, 13 DDRV (out), 14 PGND (power), 15 GATE (out), 16 VCC (power), 17 IS (in), 18 RPD (oc), 19 HSP (in), 20 HSN (in), 21 EP (power)